# Altium integrated library National Semiconductor Switcher.IntLib: 2226 symbols (part 15 of 59)
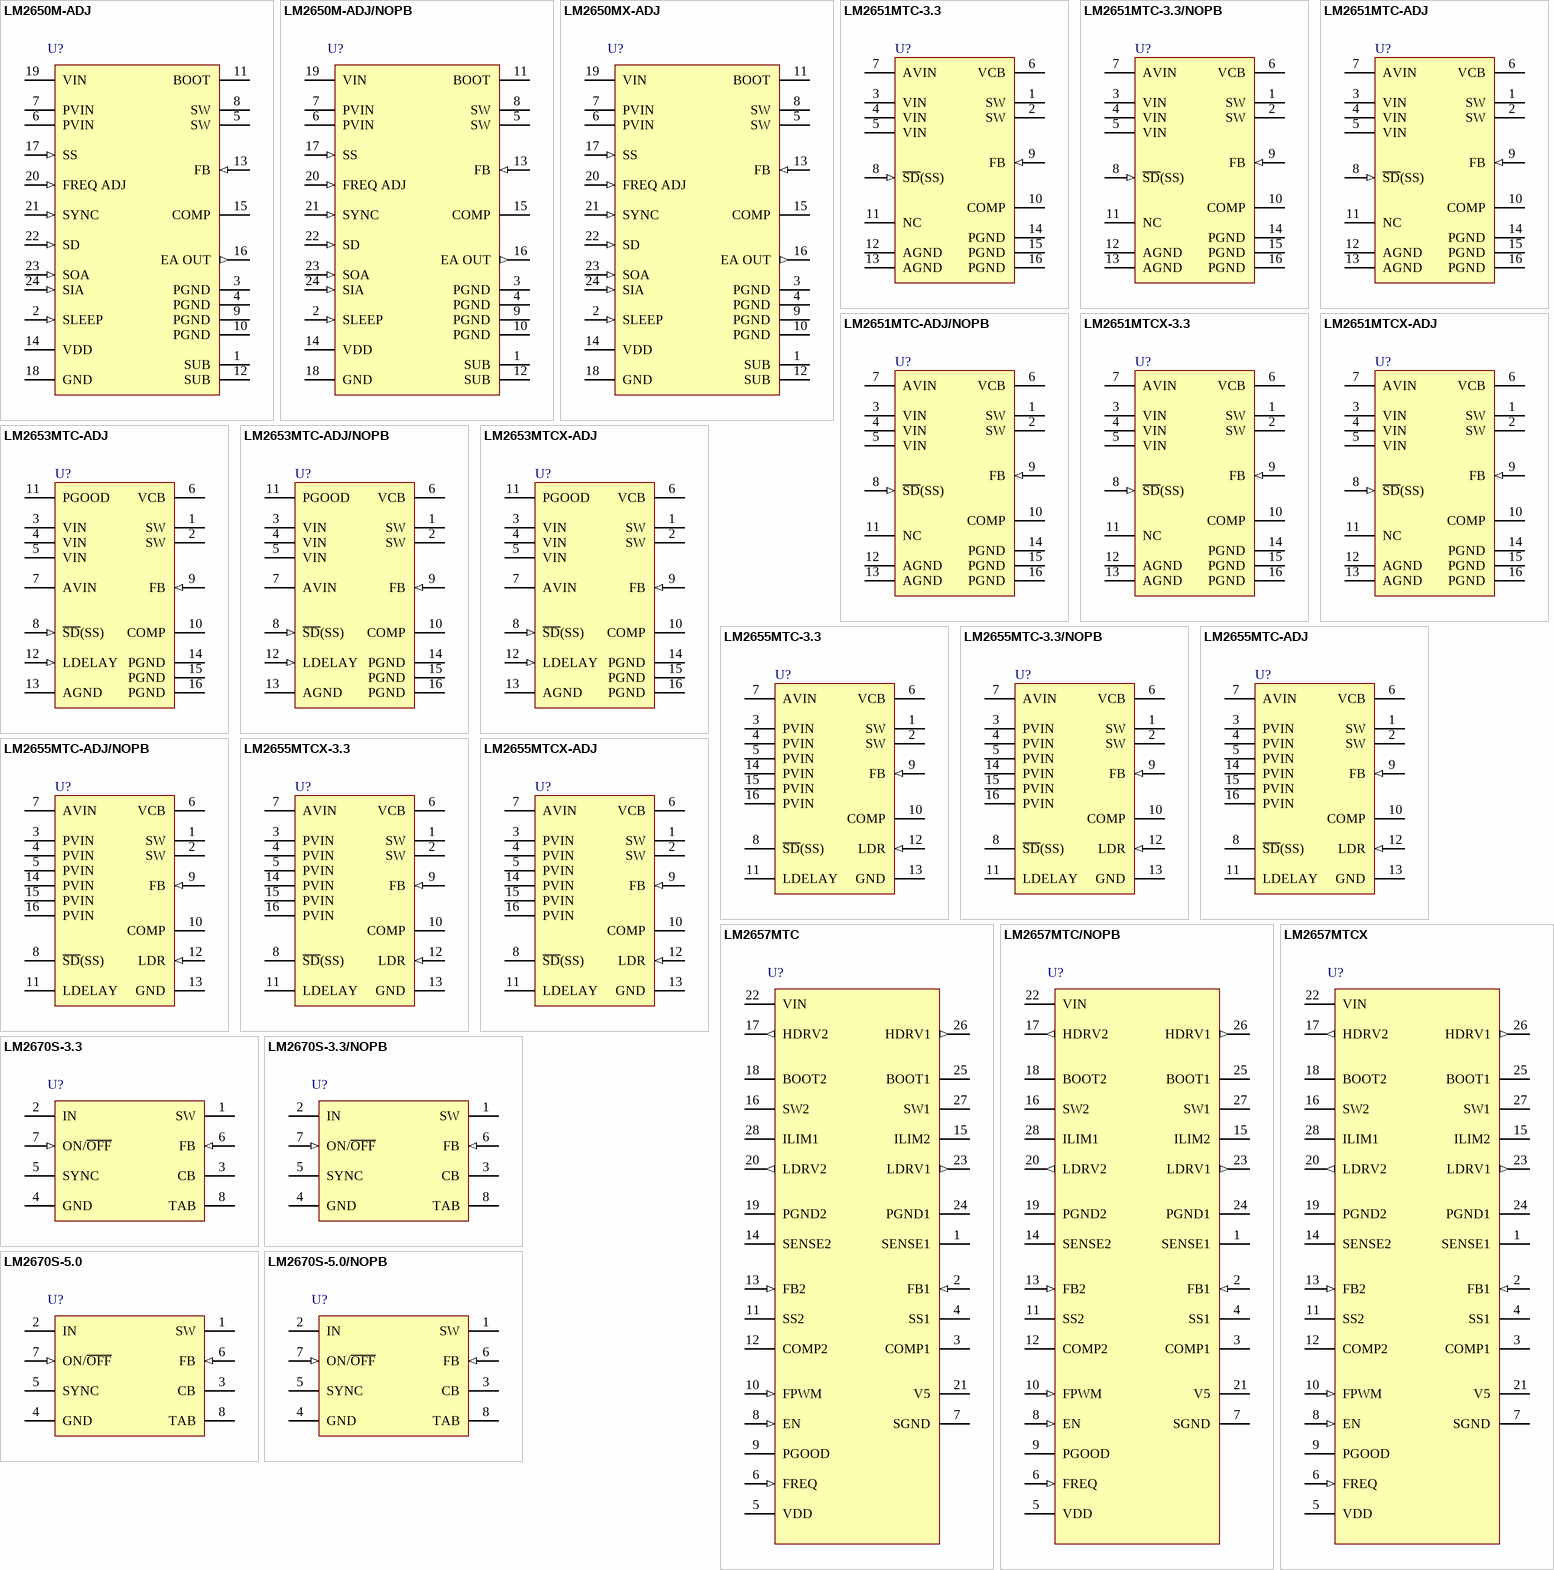
[diagram p83: symbols LM2650M-ADJ to LM2670S-5.0/NOPB]

## LM2651MTC-3.3/NOPB
designator U?
1.5A High Efficiency Switching Regulator, 16-pin TSSOP, Pb-Free; PartNumber: LM2651MTC-3.3/NOPB; Manufacturer: National Semiconductor; PackageTopMarking: NSZXYTT*2651MTC*-3.3; PowerWise: N; CompType: Switcher; High-Reliability: Y; DatasheetVersion: Apr-2005; PackageVersion: revD, Jun-2003; PackageReference: MTC16; PackageDescription: Molded TSSOP, Jedec, 5 x 4.4 x 0.9mm Body, 16 Lead, 0.65mm Pitch; RoHS: Y; PinCount: 16; Code_JEDEC: MO-153-AB; ComponentLink1Description: Manufacturer URL; ComponentLink1URL: http://www.national.com/; ComponentLink2Description: LM2651 Datasheet; ComponentLink2URL: http://www.national.com/ds/LM/LM2651.pdf; ComponentLink3Description: LM2651 Web Page; ComponentLink3URL: http://www.national.com/pf/LM/LM2651.html; ComponentLink4Description: MTC16 Package Page; ComponentLink4URL: http://www.national.com/packaging/folders/mtc16.html
footprint MTC16_N (TSOP, 16-Leads, Body 5x4.4mm, Pitch 0.65mm, IPC Medium Density)
footprint MTC16_L (TSOP, 16-Leads, Body 5x4.4mm, Pitch 0.65mm, IPC High Density)
footprint MTC16_M (TSOP, 16-Leads, Body 5x4.4mm, Pitch 0.65mm, IPC Low Density)
pins: 1 SW (power), 2 SW (power), 3 VIN (power), 4 VIN (power), 5 VIN (power), 6 VCB, 7 AVIN (power), 8 ~{SD}(SS) (in), 9 FB (in), 10 COMP, 11 NC, 12 AGND (power), 13 AGND (power), 14 PGND (power), 15 PGND (power), 16 PGND (power)

## LM2651MTC-ADJ
designator U?
1.5A High Efficiency Switching Regulator, 16-pin TSSOP; PartNumber: LM2651MTC-ADJ; Manufacturer: National Semiconductor; PackageTopMarking: NSZXYTT*2651MTC*-ADJ; PowerWise: N; CompType: Switcher; High-Reliability: Y; DatasheetVersion: Apr-2005; PackageVersion: revD, Jun-2003; PackageReference: MTC16; PackageDescription: Molded TSSOP, Jedec, 5 x 4.4 x 0.9mm Body, 16 Lead, 0.65mm Pitch; RoHS: N; PinCount: 16; Code_JEDEC: MO-153-AB; ComponentLink1Description: Manufacturer URL; ComponentLink1URL: http://www.national.com/; ComponentLink2Description: LM2651 Datasheet; ComponentLink2URL: http://www.national.com/ds/LM/LM2651.pdf; ComponentLink3Description: LM2651 Web Page; ComponentLink3URL: http://www.national.com/pf/LM/LM2651.html; ComponentLink4Description: MTC16 Package Page; ComponentLink4URL: http://www.national.com/packaging/folders/mtc16.html
footprint MTC16_N (TSOP, 16-Leads, Body 5x4.4mm, Pitch 0.65mm, IPC Medium Density)
footprint MTC16_L (TSOP, 16-Leads, Body 5x4.4mm, Pitch 0.65mm, IPC High Density)
footprint MTC16_M (TSOP, 16-Leads, Body 5x4.4mm, Pitch 0.65mm, IPC Low Density)
pins: 1 SW (power), 2 SW (power), 3 VIN (power), 4 VIN (power), 5 VIN (power), 6 VCB, 7 AVIN (power), 8 ~{SD}(SS) (in), 9 FB (in), 10 COMP, 11 NC, 12 AGND (power), 13 AGND (power), 14 PGND (power), 15 PGND (power), 16 PGND (power)

## LM2651MTC-ADJ/NOPB
designator U?
1.5A High Efficiency Switching Regulator, 16-pin TSSOP, Pb-Free; PartNumber: LM2651MTC-ADJ/NOPB; Manufacturer: National Semiconductor; PackageTopMarking: NSZXYTT*2651MTC*-ADJ; PowerWise: N; CompType: Switcher; High-Reliability: Y; DatasheetVersion: Apr-2005; PackageVersion: revD, Jun-2003; PackageReference: MTC16; PackageDescription: Molded TSSOP, Jedec, 5 x 4.4 x 0.9mm Body, 16 Lead, 0.65mm Pitch; RoHS: Y; PinCount: 16; Code_JEDEC: MO-153-AB; ComponentLink1Description: Manufacturer URL; ComponentLink1URL: http://www.national.com/; ComponentLink2Description: LM2651 Datasheet; ComponentLink2URL: http://www.national.com/ds/LM/LM2651.pdf; ComponentLink3Description: LM2651 Web Page; ComponentLink3URL: http://www.national.com/pf/LM/LM2651.html; ComponentLink4Description: MTC16 Package Page; ComponentLink4URL: http://www.national.com/packaging/folders/mtc16.html
footprint MTC16_N (TSOP, 16-Leads, Body 5x4.4mm, Pitch 0.65mm, IPC Medium Density)
footprint MTC16_L (TSOP, 16-Leads, Body 5x4.4mm, Pitch 0.65mm, IPC High Density)
footprint MTC16_M (TSOP, 16-Leads, Body 5x4.4mm, Pitch 0.65mm, IPC Low Density)
pins: 1 SW (power), 2 SW (power), 3 VIN (power), 4 VIN (power), 5 VIN (power), 6 VCB, 7 AVIN (power), 8 ~{SD}(SS) (in), 9 FB (in), 10 COMP, 11 NC, 12 AGND (power), 13 AGND (power), 14 PGND (power), 15 PGND (power), 16 PGND (power)

## LM2651MTCX-3.3
designator U?
1.5A High Efficiency Switching Regulator, 16-pin TSSOP; PartNumber: LM2651MTCX-3.3; Manufacturer: National Semiconductor; PackageTopMarking: NSZXYTT*2651MTC*-3.3; PowerWise: N; CompType: Switcher; High-Reliability: Y; DatasheetVersion: Apr-2005; PackageVersion: revD, Jun-2003; PackageReference: MTC16; PackageDescription: Molded TSSOP, Jedec, 5 x 4.4 x 0.9mm Body, 16 Lead, 0.65mm Pitch; RoHS: N; PinCount: 16; Code_JEDEC: MO-153-AB; ComponentLink1Description: Manufacturer URL; ComponentLink1URL: http://www.national.com/; ComponentLink2Description: LM2651 Datasheet; ComponentLink2URL: http://www.national.com/ds/LM/LM2651.pdf; ComponentLink3Description: LM2651 Web Page; ComponentLink3URL: http://www.national.com/pf/LM/LM2651.html; ComponentLink4Description: MTC16 Package Page; ComponentLink4URL: http://www.national.com/packaging/folders/mtc16.html
footprint MTC16_N (TSOP, 16-Leads, Body 5x4.4mm, Pitch 0.65mm, IPC Medium Density)
footprint MTC16_L (TSOP, 16-Leads, Body 5x4.4mm, Pitch 0.65mm, IPC High Density)
footprint MTC16_M (TSOP, 16-Leads, Body 5x4.4mm, Pitch 0.65mm, IPC Low Density)
pins: 1 SW (power), 2 SW (power), 3 VIN (power), 4 VIN (power), 5 VIN (power), 6 VCB, 7 AVIN (power), 8 ~{SD}(SS) (in), 9 FB (in), 10 COMP, 11 NC, 12 AGND (power), 13 AGND (power), 14 PGND (power), 15 PGND (power), 16 PGND (power)

## LM2651MTCX-ADJ
designator U?
1.5A High Efficiency Switching Regulator, 16-pin TSSOP; PartNumber: LM2651MTCX-ADJ; Manufacturer: National Semiconductor; PackageTopMarking: NSZXYTT*2651MTC*-ADJ; PowerWise: N; CompType: Switcher; High-Reliability: Y; DatasheetVersion: Apr-2005; PackageVersion: revD, Jun-2003; PackageReference: MTC16; PackageDescription: Molded TSSOP, Jedec, 5 x 4.4 x 0.9mm Body, 16 Lead, 0.65mm Pitch; RoHS: N; PinCount: 16; Code_JEDEC: MO-153-AB; ComponentLink1Description: Manufacturer URL; ComponentLink1URL: http://www.national.com/; ComponentLink2Description: LM2651 Datasheet; ComponentLink2URL: http://www.national.com/ds/LM/LM2651.pdf; ComponentLink3Description: LM2651 Web Page; ComponentLink3URL: http://www.national.com/pf/LM/LM2651.html; ComponentLink4Description: MTC16 Package Page; ComponentLink4URL: http://www.national.com/packaging/folders/mtc16.html
footprint MTC16_N (TSOP, 16-Leads, Body 5x4.4mm, Pitch 0.65mm, IPC Medium Density)
footprint MTC16_L (TSOP, 16-Leads, Body 5x4.4mm, Pitch 0.65mm, IPC High Density)
footprint MTC16_M (TSOP, 16-Leads, Body 5x4.4mm, Pitch 0.65mm, IPC Low Density)
pins: 1 SW (power), 2 SW (power), 3 VIN (power), 4 VIN (power), 5 VIN (power), 6 VCB, 7 AVIN (power), 8 ~{SD}(SS) (in), 9 FB (in), 10 COMP, 11 NC, 12 AGND (power), 13 AGND (power), 14 PGND (power), 15 PGND (power), 16 PGND (power)

## LM2653MTC-ADJ
designator U?
1.5A High Efficiency Synchronous Switching Regulator, 16-pin TSSOP; PartNumber: LM2653MTC-ADJ; Manufacturer: National Semiconductor; PackageTopMarking: NSZXYTT*2653MT*C-ADJ; PowerWise: N; CompType: Switcher; High-Reliability: Y; DatasheetVersion: Apr-2005; PackageVersion: revD, Jun-2003; PackageReference: MTC16; PackageDescription: Molded TSSOP, Jedec, 5 x 4.4 x 0.9mm Body, 16 Lead, 0.65mm Pitch; RoHS: N; PinCount: 16; Code_JEDEC: MO-153-AB; ComponentLink1Description: Manufacturer URL; ComponentLink1URL: http://www.national.com/; ComponentLink2Description: LM2653 Datasheet; ComponentLink2URL: http://www.national.com/ds/LM/LM2653.pdf; ComponentLink3Description: LM2653 Web Page; ComponentLink3URL: http://www.national.com/pf/LM/LM2653.html; ComponentLink4Description: MTC16 Package Page; ComponentLink4URL: http://www.national.com/packaging/folders/mtc16.html
footprint MTC16_N (TSOP, 16-Leads, Body 5x4.4mm, Pitch 0.65mm, IPC Medium Density)
footprint MTC16_L (TSOP, 16-Leads, Body 5x4.4mm, Pitch 0.65mm, IPC High Density)
footprint MTC16_M (TSOP, 16-Leads, Body 5x4.4mm, Pitch 0.65mm, IPC Low Density)
pins: 1 SW (power), 2 SW (power), 3 VIN (power), 4 VIN (power), 5 VIN (power), 6 VCB, 7 AVIN (power), 8 ~{SD}(SS) (in), 9 FB (in), 10 COMP, 11 PGOOD (oc), 12 LDELAY (in), 13 AGND (power), 14 PGND (power), 15 PGND (power), 16 PGND (power)

## LM2653MTC-ADJ/NOPB
designator U?
1.5A High Efficiency Synchronous Switching Regulator, 16-pin TSSOP, Pb-Free; PartNumber: LM2653MTC-ADJ/NOPB; Manufacturer: National Semiconductor; PackageTopMarking: NSZXYTT*2653MT*C-ADJ; PowerWise: N; CompType: Switcher; High-Reliability: Y; DatasheetVersion: Apr-2005; PackageVersion: revD, Jun-2003; PackageReference: MTC16; PackageDescription: Molded TSSOP, Jedec, 5 x 4.4 x 0.9mm Body, 16 Lead, 0.65mm Pitch; RoHS: Y; PinCount: 16; Code_JEDEC: MO-153-AB; ComponentLink1Description: Manufacturer URL; ComponentLink1URL: http://www.national.com/; ComponentLink2Description: LM2653 Datasheet; ComponentLink2URL: http://www.national.com/ds/LM/LM2653.pdf; ComponentLink3Description: LM2653 Web Page; ComponentLink3URL: http://www.national.com/pf/LM/LM2653.html; ComponentLink4Description: MTC16 Package Page; ComponentLink4URL: http://www.national.com/packaging/folders/mtc16.html
footprint MTC16_N (TSOP, 16-Leads, Body 5x4.4mm, Pitch 0.65mm, IPC Medium Density)
footprint MTC16_L (TSOP, 16-Leads, Body 5x4.4mm, Pitch 0.65mm, IPC High Density)
footprint MTC16_M (TSOP, 16-Leads, Body 5x4.4mm, Pitch 0.65mm, IPC Low Density)
pins: 1 SW (power), 2 SW (power), 3 VIN (power), 4 VIN (power), 5 VIN (power), 6 VCB, 7 AVIN (power), 8 ~{SD}(SS) (in), 9 FB (in), 10 COMP, 11 PGOOD (oc), 12 LDELAY (in), 13 AGND (power), 14 PGND (power), 15 PGND (power), 16 PGND (power)

## LM2653MTCX-ADJ
designator U?
1.5A High Efficiency Synchronous Switching Regulator, 16-pin TSSOP; PartNumber: LM2653MTCX-ADJ; Manufacturer: National Semiconductor; PackageTopMarking: NSZXYTT*2653MT*C-ADJ; PowerWise: N; CompType: Switcher; High-Reliability: Y; DatasheetVersion: Apr-2005; PackageVersion: revD, Jun-2003; PackageReference: MTC16; PackageDescription: Molded TSSOP, Jedec, 5 x 4.4 x 0.9mm Body, 16 Lead, 0.65mm Pitch; RoHS: N; PinCount: 16; Code_JEDEC: MO-153-AB; ComponentLink1Description: Manufacturer URL; ComponentLink1URL: http://www.national.com/; ComponentLink2Description: LM2653 Datasheet; ComponentLink2URL: http://www.national.com/ds/LM/LM2653.pdf; ComponentLink3Description: LM2653 Web Page; ComponentLink3URL: http://www.national.com/pf/LM/LM2653.html; ComponentLink4Description: MTC16 Package Page; ComponentLink4URL: http://www.national.com/packaging/folders/mtc16.html
footprint MTC16_N (TSOP, 16-Leads, Body 5x4.4mm, Pitch 0.65mm, IPC Medium Density)
footprint MTC16_L (TSOP, 16-Leads, Body 5x4.4mm, Pitch 0.65mm, IPC High Density)
footprint MTC16_M (TSOP, 16-Leads, Body 5x4.4mm, Pitch 0.65mm, IPC Low Density)
pins: 1 SW (power), 2 SW (power), 3 VIN (power), 4 VIN (power), 5 VIN (power), 6 VCB, 7 AVIN (power), 8 ~{SD}(SS) (in), 9 FB (in), 10 COMP, 11 PGOOD (oc), 12 LDELAY (in), 13 AGND (power), 14 PGND (power), 15 PGND (power), 16 PGND (power)

## LM2655MTC-3.3
designator U?
2.5A High Efficiency Synchronous Switching Regulator, 16-pin TSSOP; PartNumber: LM2655MTC-3.3; Manufacturer: National Semiconductor; PackageTopMarking: NSZXYTT*2655MTC*-3.3; PowerWise: N; CompType: Switcher; High-Reliability: Y; DatasheetVersion: Apr-2005; PackageVersion: revD, Jun-2003; PackageReference: MTC16; PackageDescription: Molded TSSOP, Jedec, 5 x 4.4 x 0.9mm Body, 16 Lead, 0.65mm Pitch; RoHS: N; PinCount: 16; Code_JEDEC: MO-153-AB; ComponentLink1Description: Manufacturer URL; ComponentLink1URL: http://www.national.com/; ComponentLink2Description: LM2655 Datasheet; ComponentLink2URL: http://www.national.com/ds/LM/LM2655.pdf; ComponentLink3Description: LM2655 Web Page; ComponentLink3URL: http://www.national.com/pf/LM/LM2655.html; ComponentLink4Description: MTC16 Package Page; ComponentLink4URL: http://www.national.com/packaging/folders/mtc16.html
footprint MTC16_N (TSOP, 16-Leads, Body 5x4.4mm, Pitch 0.65mm, IPC Medium Density)
footprint MTC16_L (TSOP, 16-Leads, Body 5x4.4mm, Pitch 0.65mm, IPC High Density)
footprint MTC16_M (TSOP, 16-Leads, Body 5x4.4mm, Pitch 0.65mm, IPC Low Density)
pins: 1 SW (power), 2 SW (power), 3 PVIN (power), 4 PVIN (power), 5 PVIN (power), 6 VCB, 7 AVIN (power), 8 ~{SD}(SS), 9 FB (in), 10 COMP, 11 LDELAY, 12 LDR (in), 13 GND (power), 14 PVIN (power), 15 PVIN (power), 16 PVIN (power)

## LM2655MTC-3.3/NOPB
designator U?
2.5A High Efficiency Synchronous Switching Regulator, 16-pin TSSOP, Pb-Free; PartNumber: LM2655MTC-3.3/NOPB; Manufacturer: National Semiconductor; PackageTopMarking: NSZXYTT*2655MTC*-3.3; PowerWise: N; CompType: Switcher; High-Reliability: Y; DatasheetVersion: Apr-2005; PackageVersion: revD, Jun-2003; PackageReference: MTC16; PackageDescription: Molded TSSOP, Jedec, 5 x 4.4 x 0.9mm Body, 16 Lead, 0.65mm Pitch; RoHS: Y; PinCount: 16; Code_JEDEC: MO-153-AB; ComponentLink1Description: Manufacturer URL; ComponentLink1URL: http://www.national.com/; ComponentLink2Description: LM2655 Datasheet; ComponentLink2URL: http://www.national.com/ds/LM/LM2655.pdf; ComponentLink3Description: LM2655 Web Page; ComponentLink3URL: http://www.national.com/pf/LM/LM2655.html; ComponentLink4Description: MTC16 Package Page; ComponentLink4URL: http://www.national.com/packaging/folders/mtc16.html
footprint MTC16_N (TSOP, 16-Leads, Body 5x4.4mm, Pitch 0.65mm, IPC Medium Density)
footprint MTC16_L (TSOP, 16-Leads, Body 5x4.4mm, Pitch 0.65mm, IPC High Density)
footprint MTC16_M (TSOP, 16-Leads, Body 5x4.4mm, Pitch 0.65mm, IPC Low Density)
pins: 1 SW (power), 2 SW (power), 3 PVIN (power), 4 PVIN (power), 5 PVIN (power), 6 VCB, 7 AVIN (power), 8 ~{SD}(SS), 9 FB (in), 10 COMP, 11 LDELAY, 12 LDR (in), 13 GND (power), 14 PVIN (power), 15 PVIN (power), 16 PVIN (power)

## LM2655MTC-ADJ
designator U?
2.5A High Efficiency Synchronous Switching Regulator, 16-pin TSSOP; PartNumber: LM2655MTC-ADJ; Manufacturer: National Semiconductor; PackageTopMarking: NSZXYTT*2655MTC*-ADJ; PowerWise: N; CompType: Switcher; High-Reliability: Y; DatasheetVersion: Apr-2005; PackageVersion: revD, Jun-2003; PackageReference: MTC16; PackageDescription: Molded TSSOP, Jedec, 5 x 4.4 x 0.9mm Body, 16 Lead, 0.65mm Pitch; RoHS: N; PinCount: 16; Code_JEDEC: MO-153-AB; ComponentLink1Description: Manufacturer URL; ComponentLink1URL: http://www.national.com/; ComponentLink2Description: LM2655 Datasheet; ComponentLink2URL: http://www.national.com/ds/LM/LM2655.pdf; ComponentLink3Description: LM2655 Web Page; ComponentLink3URL: http://www.national.com/pf/LM/LM2655.html; ComponentLink4Description: MTC16 Package Page; ComponentLink4URL: http://www.national.com/packaging/folders/mtc16.html
footprint MTC16_N (TSOP, 16-Leads, Body 5x4.4mm, Pitch 0.65mm, IPC Medium Density)
footprint MTC16_L (TSOP, 16-Leads, Body 5x4.4mm, Pitch 0.65mm, IPC High Density)
footprint MTC16_M (TSOP, 16-Leads, Body 5x4.4mm, Pitch 0.65mm, IPC Low Density)
pins: 1 SW (power), 2 SW (power), 3 PVIN (power), 4 PVIN (power), 5 PVIN (power), 6 VCB, 7 AVIN (power), 8 ~{SD}(SS), 9 FB (in), 10 COMP, 11 LDELAY, 12 LDR (in), 13 GND (power), 14 PVIN (power), 15 PVIN (power), 16 PVIN (power)

## LM2655MTC-ADJ/NOPB
designator U?
2.5A High Efficiency Synchronous Switching Regulator, 16-pin TSSOP, Pb-Free; PartNumber: LM2655MTC-ADJ/NOPB; Manufacturer: National Semiconductor; PackageTopMarking: NSZXYTT*2655MTC*-ADJ; PowerWise: N; CompType: Switcher; High-Reliability: Y; DatasheetVersion: Apr-2005; PackageVersion: revD, Jun-2003; PackageReference: MTC16; PackageDescription: Molded TSSOP, Jedec, 5 x 4.4 x 0.9mm Body, 16 Lead, 0.65mm Pitch; RoHS: Y; PinCount: 16; Code_JEDEC: MO-153-AB; ComponentLink1Description: Manufacturer URL; ComponentLink1URL: http://www.national.com/; ComponentLink2Description: LM2655 Datasheet; ComponentLink2URL: http://www.national.com/ds/LM/LM2655.pdf; ComponentLink3Description: LM2655 Web Page; ComponentLink3URL: http://www.national.com/pf/LM/LM2655.html; ComponentLink4Description: MTC16 Package Page; ComponentLink4URL: http://www.national.com/packaging/folders/mtc16.html
footprint MTC16_N (TSOP, 16-Leads, Body 5x4.4mm, Pitch 0.65mm, IPC Medium Density)
footprint MTC16_L (TSOP, 16-Leads, Body 5x4.4mm, Pitch 0.65mm, IPC High Density)
footprint MTC16_M (TSOP, 16-Leads, Body 5x4.4mm, Pitch 0.65mm, IPC Low Density)
pins: 1 SW (power), 2 SW (power), 3 PVIN (power), 4 PVIN (power), 5 PVIN (power), 6 VCB, 7 AVIN (power), 8 ~{SD}(SS), 9 FB (in), 10 COMP, 11 LDELAY, 12 LDR (in), 13 GND (power), 14 PVIN (power), 15 PVIN (power), 16 PVIN (power)

## LM2655MTCX-3.3
designator U?
2.5A High Efficiency Synchronous Switching Regulator, 16-pin TSSOP; PartNumber: LM2655MTCX-3.3; Manufacturer: National Semiconductor; PackageTopMarking: NSZXYTT*2655MTC*-3.3; PowerWise: N; CompType: Switcher; High-Reliability: Y; DatasheetVersion: Apr-2005; PackageVersion: revD, Jun-2003; PackageReference: MTC16; PackageDescription: Molded TSSOP, Jedec, 5 x 4.4 x 0.9mm Body, 16 Lead, 0.65mm Pitch; RoHS: N; PinCount: 16; Code_JEDEC: MO-153-AB; ComponentLink1Description: Manufacturer URL; ComponentLink1URL: http://www.national.com/; ComponentLink2Description: LM2655 Datasheet; ComponentLink2URL: http://www.national.com/ds/LM/LM2655.pdf; ComponentLink3Description: LM2655 Web Page; ComponentLink3URL: http://www.national.com/pf/LM/LM2655.html; ComponentLink4Description: MTC16 Package Page; ComponentLink4URL: http://www.national.com/packaging/folders/mtc16.html
footprint MTC16_N (TSOP, 16-Leads, Body 5x4.4mm, Pitch 0.65mm, IPC Medium Density)
footprint MTC16_L (TSOP, 16-Leads, Body 5x4.4mm, Pitch 0.65mm, IPC High Density)
footprint MTC16_M (TSOP, 16-Leads, Body 5x4.4mm, Pitch 0.65mm, IPC Low Density)
pins: 1 SW (power), 2 SW (power), 3 PVIN (power), 4 PVIN (power), 5 PVIN (power), 6 VCB, 7 AVIN (power), 8 ~{SD}(SS), 9 FB (in), 10 COMP, 11 LDELAY, 12 LDR (in), 13 GND (power), 14 PVIN (power), 15 PVIN (power), 16 PVIN (power)

## LM2655MTCX-ADJ
designator U?
2.5A High Efficiency Synchronous Switching Regulator, 16-pin TSSOP; PartNumber: LM2655MTCX-ADJ; Manufacturer: National Semiconductor; PackageTopMarking: NSZXYTT*2655MTC*-ADJ; PowerWise: N; CompType: Switcher; High-Reliability: Y; DatasheetVersion: Apr-2005; PackageVersion: revD, Jun-2003; PackageReference: MTC16; PackageDescription: Molded TSSOP, Jedec, 5 x 4.4 x 0.9mm Body, 16 Lead, 0.65mm Pitch; RoHS: N; PinCount: 16; Code_JEDEC: MO-153-AB; ComponentLink1Description: Manufacturer URL; ComponentLink1URL: http://www.national.com/; ComponentLink2Description: LM2655 Datasheet; ComponentLink2URL: http://www.national.com/ds/LM/LM2655.pdf; ComponentLink3Description: LM2655 Web Page; ComponentLink3URL: http://www.national.com/pf/LM/LM2655.html; ComponentLink4Description: MTC16 Package Page; ComponentLink4URL: http://www.national.com/packaging/folders/mtc16.html
footprint MTC16_N (TSOP, 16-Leads, Body 5x4.4mm, Pitch 0.65mm, IPC Medium Density)
footprint MTC16_L (TSOP, 16-Leads, Body 5x4.4mm, Pitch 0.65mm, IPC High Density)
footprint MTC16_M (TSOP, 16-Leads, Body 5x4.4mm, Pitch 0.65mm, IPC Low Density)
pins: 1 SW (power), 2 SW (power), 3 PVIN (power), 4 PVIN (power), 5 PVIN (power), 6 VCB, 7 AVIN (power), 8 ~{SD}(SS), 9 FB (in), 10 COMP, 11 LDELAY, 12 LDR (in), 13 GND (power), 14 PVIN (power), 15 PVIN (power), 16 PVIN (power)

## LM2657MTC
designator U?
Dual Synchronous Buck Regulator Controller, 28-pin TSSOP; PartNumber: LM2657MTC; Manufacturer: National Semiconductor; PackageTopMarking: NSUZXYTTE#*LM2657*MTC; PowerWise: N; CompType: Switcher; High-Reliability: Y; DatasheetVersion: Mar-2005; PackageVersion: revD, Jan-2005; PackageReference: MTC28; PackageDescription: Molded TSSOP, Jedec, 9.7 x 4.4 x 0.9mm Body, 28 Lead, 0.65mm Pitch; RoHS: N; PinCount: 28; Code_JEDEC: MO-153-AE; ComponentLink1Description: Manufacturer URL; ComponentLink1URL: http://www.national.com/; ComponentLink2Description: LM2657 Datasheet; ComponentLink2URL: http://www.national.com/ds/LM/LM2657.pdf; ComponentLink3Description: LM2657 Web Page; ComponentLink3URL: http://www.national.com/pf/LM/LM2657.html; ComponentLink4Description: MTC28 Package Page; ComponentLink4URL: http://www.national.com/packaging/folders/mtc28.html
footprint MTC28_N (TSOP, 28-Leads, Body 9.7x4.4mm, Pitch 0.65mm, IPC Medium Density)
footprint MTC28_L (TSOP, 28-Leads, Body 9.7x4.4mm, Pitch 0.65mm, IPC High Density)
footprint MTC28_M (TSOP, 28-Leads, Body 9.7x4.4mm, Pitch 0.65mm, IPC Low Density)
pins: 1 SENSE1, 2 FB1 (in), 3 COMP1, 4 SS1, 5 VDD (power), 6 FREQ (in), 7 SGND (power), 8 EN (in), 9 PGOOD (oc), 10 FPWM (in), 11 SS2, 12 COMP2, 13 FB2 (in), 14 SENSE2, 15 ILIM2, 16 SW2 (power), 17 HDRV2 (out), 18 BOOT2, 19 PGND2 (power), 20 LDRV2 (out), 21 V5 (power), 22 VIN (power), 23 LDRV1 (out), 24 PGND1 (power), 25 BOOT1, 26 HDRV1 (out), 27 SW1 (power), 28 ILIM1

## LM2657MTC/NOPB
designator U?
Dual Synchronous Buck Regulator Controller, 28-pin TSSOP, Pb-Free; PartNumber: LM2657MTC/NOPB; Manufacturer: National Semiconductor; PackageTopMarking: NSUZXYTTE#*LM2657*MTC; PowerWise: N; CompType: Switcher; High-Reliability: Y; DatasheetVersion: Mar-2005; PackageVersion: revD, Jan-2005; PackageReference: MTC28; PackageDescription: Molded TSSOP, Jedec, 9.7 x 4.4 x 0.9mm Body, 28 Lead, 0.65mm Pitch; RoHS: Y; PinCount: 28; Code_JEDEC: MO-153-AE; ComponentLink1Description: Manufacturer URL; ComponentLink1URL: http://www.national.com/; ComponentLink2Description: LM2657 Datasheet; ComponentLink2URL: http://www.national.com/ds/LM/LM2657.pdf; ComponentLink3Description: LM2657 Web Page; ComponentLink3URL: http://www.national.com/pf/LM/LM2657.html; ComponentLink4Description: MTC28 Package Page; ComponentLink4URL: http://www.national.com/packaging/folders/mtc28.html
footprint MTC28_N (TSOP, 28-Leads, Body 9.7x4.4mm, Pitch 0.65mm, IPC Medium Density)
footprint MTC28_L (TSOP, 28-Leads, Body 9.7x4.4mm, Pitch 0.65mm, IPC High Density)
footprint MTC28_M (TSOP, 28-Leads, Body 9.7x4.4mm, Pitch 0.65mm, IPC Low Density)
pins: 1 SENSE1, 2 FB1 (in), 3 COMP1, 4 SS1, 5 VDD (power), 6 FREQ (in), 7 SGND (power), 8 EN (in), 9 PGOOD (oc), 10 FPWM (in), 11 SS2, 12 COMP2, 13 FB2 (in), 14 SENSE2, 15 ILIM2, 16 SW2 (power), 17 HDRV2 (out), 18 BOOT2, 19 PGND2 (power), 20 LDRV2 (out), 21 V5 (power), 22 VIN (power), 23 LDRV1 (out), 24 PGND1 (power), 25 BOOT1, 26 HDRV1 (out), 27 SW1 (power), 28 ILIM1

## LM2657MTCX
designator U?
Dual Synchronous Buck Regulator Controller, 28-pin TSSOP; PartNumber: LM2657MTCX; Manufacturer: National Semiconductor; PackageTopMarking: NSUZXYTTE#*LM2657*MTC; PowerWise: N; CompType: Switcher; High-Reliability: Y; DatasheetVersion: Mar-2005; PackageVersion: revD, Jan-2005; PackageReference: MTC28; PackageDescription: Molded TSSOP, Jedec, 9.7 x 4.4 x 0.9mm Body, 28 Lead, 0.65mm Pitch; RoHS: N; PinCount: 28; Code_JEDEC: MO-153-AE; ComponentLink1Description: Manufacturer URL; ComponentLink1URL: http://www.national.com/; ComponentLink2Description: LM2657 Datasheet; ComponentLink2URL: http://www.national.com/ds/LM/LM2657.pdf; ComponentLink3Description: LM2657 Web Page; ComponentLink3URL: http://www.national.com/pf/LM/LM2657.html; ComponentLink4Description: MTC28 Package Page; ComponentLink4URL: http://www.national.com/packaging/folders/mtc28.html
footprint MTC28_N (TSOP, 28-Leads, Body 9.7x4.4mm, Pitch 0.65mm, IPC Medium Density)
footprint MTC28_L (TSOP, 28-Leads, Body 9.7x4.4mm, Pitch 0.65mm, IPC High Density)
footprint MTC28_M (TSOP, 28-Leads, Body 9.7x4.4mm, Pitch 0.65mm, IPC Low Density)
pins: 1 SENSE1, 2 FB1 (in), 3 COMP1, 4 SS1, 5 VDD (power), 6 FREQ (in), 7 SGND (power), 8 EN (in), 9 PGOOD (oc), 10 FPWM (in), 11 SS2, 12 COMP2, 13 FB2 (in), 14 SENSE2, 15 ILIM2, 16 SW2 (power), 17 HDRV2 (out), 18 BOOT2, 19 PGND2 (power), 20 LDRV2 (out), 21 V5 (power), 22 VIN (power), 23 LDRV1 (out), 24 PGND1 (power), 25 BOOT1, 26 HDRV1 (out), 27 SW1 (power), 28 ILIM1

## LM2670S-3.3
designator U?
SIMPLE SWITCHER® High Efficiency 3A Step-Down Voltage Regulator with Sync, 7-pin TO-263; PartNumber: LM2670S-3.3; Manufacturer: National Semiconductor; PackageTopMarking: NSUZXYTTE#*LM2670*S-3.3; PowerWise: N; High-Reliability: Y; DatasheetVersion: Feb-2008; PackageVersion: revE, Jul-2003; PackageReference: TS7B; PackageDescription: TO-263, Molded, .400 x .390 x .180in Body, 7 Lead, .050in Pitch, Surface Mount; RoHS: N; PinCount: 7; CompType: Switcher; Code_JEDEC: MO-169-AC; ComponentLink1Description: Manufacturer URL; ComponentLink1URL: http://www.national.com/; ComponentLink2Description: LM2670 Datasheet; ComponentLink2URL: http://www.national.com/ds/LM/LM2670.pdf; ComponentLink3Description: LM2670 Web Page; ComponentLink3URL: http://www.national.com/pf/LM/LM2670.html; ComponentLink4Description: TS7B Package Page; ComponentLink4URL: http://www.national.com/packaging/folders/ts7b.html
footprint TS7B_N (D2-PAK, 8-Leads, Body 8.6x10.2mm, Pitch 1.27mm, Lead Span 14.1mm, IPC Medium Density)
footprint TS7B_L (D2-PAK, 8-Leads, Body 8.6x10.2mm, Pitch 1.27mm, Lead Span 14.1mm, IPC High Density)
footprint TS7B_M (D2-PAK, 8-Leads, Body 8.6x10.2mm, Pitch 1.27mm, Lead Span 14.1mm, IPC Low Density)
pins: 1 SW (power), 2 IN (power), 3 CB, 4 GND (power), 5 SYNC, 6 FB (in), 7 ON/~{OFF} (in), 8 TAB

## LM2670S-3.3/NOPB
designator U?
SIMPLE SWITCHER® High Efficiency 3A Step-Down Voltage Regulator with Sync, 7-pin TO-263, Pb-Free; PartNumber: LM2670S-3.3/NOPB; Manufacturer: National Semiconductor; PackageTopMarking: NSUZXYTTE#*LM2670*S-3.3; PowerWise: N; High-Reliability: Y; DatasheetVersion: Feb-2008; PackageVersion: revE, Jul-2003; PackageReference: TS7B; PackageDescription: TO-263, Molded, .400 x .390 x .180in Body, 7 Lead, .050in Pitch, Surface Mount; RoHS: Y; PinCount: 7; CompType: Switcher; Code_JEDEC: MO-169-AC; ComponentLink1Description: Manufacturer URL; ComponentLink1URL: http://www.national.com/; ComponentLink2Description: LM2670 Datasheet; ComponentLink2URL: http://www.national.com/ds/LM/LM2670.pdf; ComponentLink3Description: LM2670 Web Page; ComponentLink3URL: http://www.national.com/pf/LM/LM2670.html; ComponentLink4Description: TS7B Package Page; ComponentLink4URL: http://www.national.com/packaging/folders/ts7b.html
footprint TS7B_N (D2-PAK, 8-Leads, Body 8.6x10.2mm, Pitch 1.27mm, Lead Span 14.1mm, IPC Medium Density)
footprint TS7B_L (D2-PAK, 8-Leads, Body 8.6x10.2mm, Pitch 1.27mm, Lead Span 14.1mm, IPC High Density)
footprint TS7B_M (D2-PAK, 8-Leads, Body 8.6x10.2mm, Pitch 1.27mm, Lead Span 14.1mm, IPC Low Density)
pins: 1 SW (power), 2 IN (power), 3 CB, 4 GND (power), 5 SYNC, 6 FB (in), 7 ON/~{OFF} (in), 8 TAB

## LM2670S-5.0
designator U?
SIMPLE SWITCHER® High Efficiency 3A Step-Down Voltage Regulator with Sync, 7-pin TO-263; PartNumber: LM2670S-5.0; Manufacturer: National Semiconductor; PackageTopMarking: NSUZXYTTE#*LM2670*S-5.0; PowerWise: N; High-Reliability: Y; DatasheetVersion: Feb-2008; PackageVersion: revE, Jul-2003; PackageReference: TS7B; PackageDescription: TO-263, Molded, .400 x .390 x .180in Body, 7 Lead, .050in Pitch, Surface Mount; RoHS: N; PinCount: 7; CompType: Switcher; Code_JEDEC: MO-169-AC; ComponentLink1Description: Manufacturer URL; ComponentLink1URL: http://www.national.com/; ComponentLink2Description: LM2670 Datasheet; ComponentLink2URL: http://www.national.com/ds/LM/LM2670.pdf; ComponentLink3Description: LM2670 Web Page; ComponentLink3URL: http://www.national.com/pf/LM/LM2670.html; ComponentLink4Description: TS7B Package Page; ComponentLink4URL: http://www.national.com/packaging/folders/ts7b.html
footprint TS7B_N (D2-PAK, 8-Leads, Body 8.6x10.2mm, Pitch 1.27mm, Lead Span 14.1mm, IPC Medium Density)
footprint TS7B_L (D2-PAK, 8-Leads, Body 8.6x10.2mm, Pitch 1.27mm, Lead Span 14.1mm, IPC High Density)
footprint TS7B_M (D2-PAK, 8-Leads, Body 8.6x10.2mm, Pitch 1.27mm, Lead Span 14.1mm, IPC Low Density)
pins: 1 SW (power), 2 IN (power), 3 CB, 4 GND (power), 5 SYNC, 6 FB (in), 7 ON/~{OFF} (in), 8 TAB

## LM2670S-5.0/NOPB
designator U?
SIMPLE SWITCHER® High Efficiency 3A Step-Down Voltage Regulator with Sync, 7-pin TO-263, Pb-Free; PartNumber: LM2670S-5.0/NOPB; Manufacturer: National Semiconductor; PackageTopMarking: NSUZXYTTE#*LM2670*S-5.0; PowerWise: N; High-Reliability: Y; DatasheetVersion: Feb-2008; PackageVersion: revE, Jul-2003; PackageReference: TS7B; PackageDescription: TO-263, Molded, .400 x .390 x .180in Body, 7 Lead, .050in Pitch, Surface Mount; RoHS: Y; PinCount: 7; CompType: Switcher; Code_JEDEC: MO-169-AC; ComponentLink1Description: Manufacturer URL; ComponentLink1URL: http://www.national.com/; ComponentLink2Description: LM2670 Datasheet; ComponentLink2URL: http://www.national.com/ds/LM/LM2670.pdf; ComponentLink3Description: LM2670 Web Page; ComponentLink3URL: http://www.national.com/pf/LM/LM2670.html; ComponentLink4Description: TS7B Package Page; ComponentLink4URL: http://www.national.com/packaging/folders/ts7b.html
footprint TS7B_N (D2-PAK, 8-Leads, Body 8.6x10.2mm, Pitch 1.27mm, Lead Span 14.1mm, IPC Medium Density)
footprint TS7B_L (D2-PAK, 8-Leads, Body 8.6x10.2mm, Pitch 1.27mm, Lead Span 14.1mm, IPC High Density)
footprint TS7B_M (D2-PAK, 8-Leads, Body 8.6x10.2mm, Pitch 1.27mm, Lead Span 14.1mm, IPC Low Density)
pins: 1 SW (power), 2 IN (power), 3 CB, 4 GND (power), 5 SYNC, 6 FB (in), 7 ON/~{OFF} (in), 8 TAB

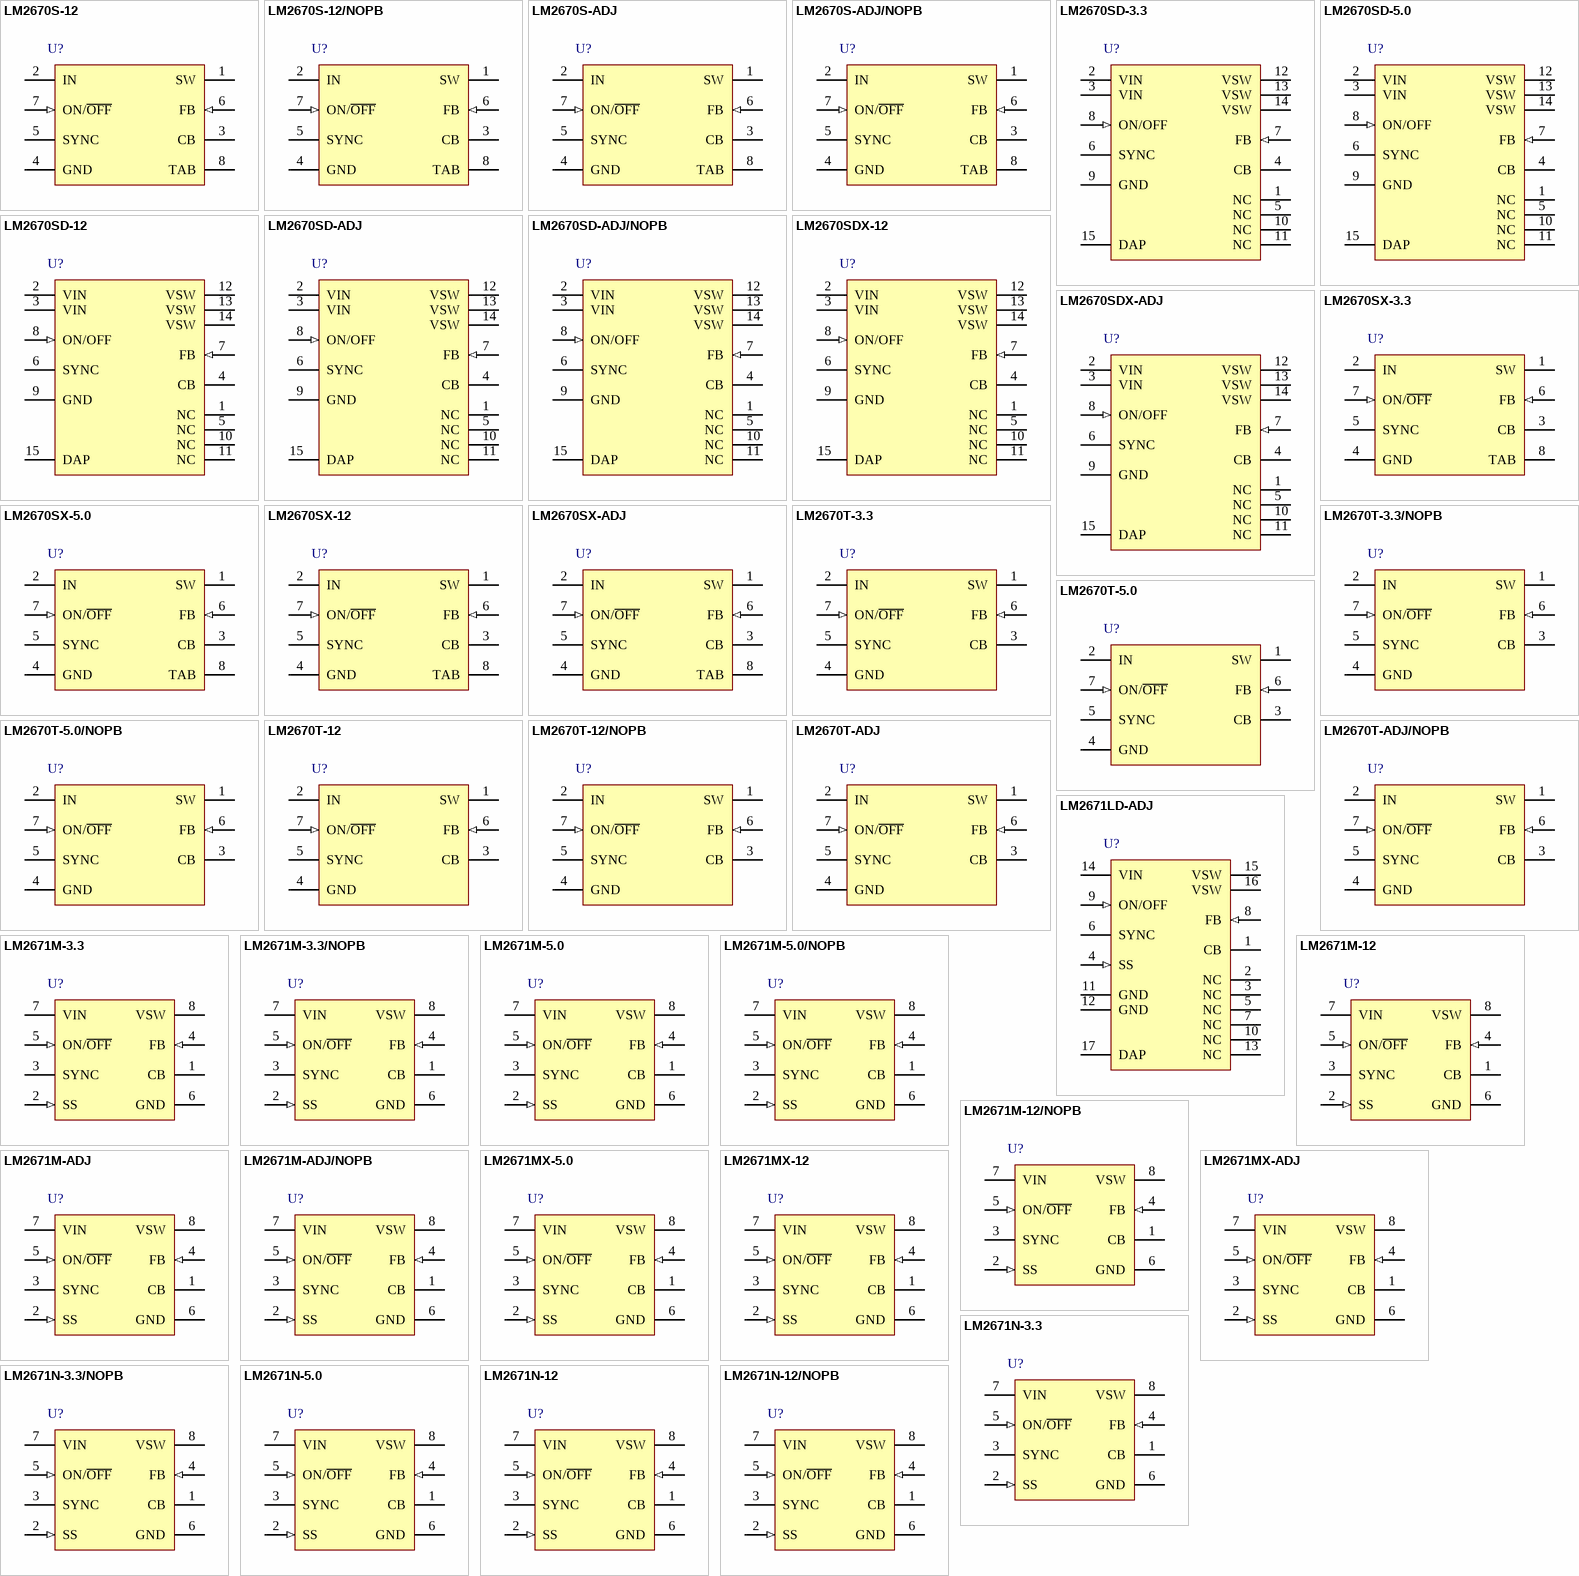
[diagram p16: symbols LM2670S-12 to LM2671N-12/NOPB]

## LM2670S-12
designator U?
SIMPLE SWITCHER® High Efficiency 3A Step-Down Voltage Regulator with Sync, 7-pin TO-263; PartNumber: LM2670S-12; Manufacturer: National Semiconductor; PackageTopMarking: NSUZXYTTE#*LM2670*S-12; PowerWise: N; High-Reliability: Y; DatasheetVersion: Feb-2008; PackageVersion: revE, Jul-2003; PackageReference: TS7B; PackageDescription: TO-263, Molded, .400 x .390 x .180in Body, 7 Lead, .050in Pitch, Surface Mount; RoHS: N; PinCount: 7; CompType: Switcher; Code_JEDEC: MO-169-AC; ComponentLink1Description: Manufacturer URL; ComponentLink1URL: http://www.national.com/; ComponentLink2Description: LM2670 Datasheet; ComponentLink2URL: http://www.national.com/ds/LM/LM2670.pdf; ComponentLink3Description: LM2670 Web Page; ComponentLink3URL: http://www.national.com/pf/LM/LM2670.html; ComponentLink4Description: TS7B Package Page; ComponentLink4URL: http://www.national.com/packaging/folders/ts7b.html
footprint TS7B_N (D2-PAK, 8-Leads, Body 8.6x10.2mm, Pitch 1.27mm, Lead Span 14.1mm, IPC Medium Density)
footprint TS7B_L (D2-PAK, 8-Leads, Body 8.6x10.2mm, Pitch 1.27mm, Lead Span 14.1mm, IPC High Density)
footprint TS7B_M (D2-PAK, 8-Leads, Body 8.6x10.2mm, Pitch 1.27mm, Lead Span 14.1mm, IPC Low Density)
pins: 1 SW (power), 2 IN (power), 3 CB, 4 GND (power), 5 SYNC, 6 FB (in), 7 ON/~{OFF} (in), 8 TAB

## LM2670S-12/NOPB
designator U?
SIMPLE SWITCHER® High Efficiency 3A Step-Down Voltage Regulator with Sync, 7-pin TO-263, Pb-Free; PartNumber: LM2670S-12/NOPB; Manufacturer: National Semiconductor; PackageTopMarking: NSUZXYTTE#*LM2670*S-12; PowerWise: N; High-Reliability: Y; DatasheetVersion: Feb-2008; PackageVersion: revE, Jul-2003; PackageReference: TS7B; PackageDescription: TO-263, Molded, .400 x .390 x .180in Body, 7 Lead, .050in Pitch, Surface Mount; RoHS: Y; PinCount: 7; CompType: Switcher; Code_JEDEC: MO-169-AC; ComponentLink1Description: Manufacturer URL; ComponentLink1URL: http://www.national.com/; ComponentLink2Description: LM2670 Datasheet; ComponentLink2URL: http://www.national.com/ds/LM/LM2670.pdf; ComponentLink3Description: LM2670 Web Page; ComponentLink3URL: http://www.national.com/pf/LM/LM2670.html; ComponentLink4Description: TS7B Package Page; ComponentLink4URL: http://www.national.com/packaging/folders/ts7b.html
footprint TS7B_N (D2-PAK, 8-Leads, Body 8.6x10.2mm, Pitch 1.27mm, Lead Span 14.1mm, IPC Medium Density)
footprint TS7B_L (D2-PAK, 8-Leads, Body 8.6x10.2mm, Pitch 1.27mm, Lead Span 14.1mm, IPC High Density)
footprint TS7B_M (D2-PAK, 8-Leads, Body 8.6x10.2mm, Pitch 1.27mm, Lead Span 14.1mm, IPC Low Density)
pins: 1 SW (power), 2 IN (power), 3 CB, 4 GND (power), 5 SYNC, 6 FB (in), 7 ON/~{OFF} (in), 8 TAB

## LM2670S-ADJ
designator U?
SIMPLE SWITCHER® High Efficiency 3A Step-Down Voltage Regulator with Sync, 7-pin TO-263; PartNumber: LM2670S-ADJ; Manufacturer: National Semiconductor; PackageTopMarking: NSUZXYTTE#*LM2670*S-ADJ; PowerWise: N; High-Reliability: Y; DatasheetVersion: Feb-2008; PackageVersion: revE, Jul-2003; PackageReference: TS7B; PackageDescription: TO-263, Molded, .400 x .390 x .180in Body, 7 Lead, .050in Pitch, Surface Mount; RoHS: N; PinCount: 7; CompType: Switcher; Code_JEDEC: MO-169-AC; ComponentLink1Description: Manufacturer URL; ComponentLink1URL: http://www.national.com/; ComponentLink2Description: LM2670 Datasheet; ComponentLink2URL: http://www.national.com/ds/LM/LM2670.pdf; ComponentLink3Description: LM2670 Web Page; ComponentLink3URL: http://www.national.com/pf/LM/LM2670.html; ComponentLink4Description: TS7B Package Page; ComponentLink4URL: http://www.national.com/packaging/folders/ts7b.html
footprint TS7B_N (D2-PAK, 8-Leads, Body 8.6x10.2mm, Pitch 1.27mm, Lead Span 14.1mm, IPC Medium Density)
footprint TS7B_L (D2-PAK, 8-Leads, Body 8.6x10.2mm, Pitch 1.27mm, Lead Span 14.1mm, IPC High Density)
footprint TS7B_M (D2-PAK, 8-Leads, Body 8.6x10.2mm, Pitch 1.27mm, Lead Span 14.1mm, IPC Low Density)
pins: 1 SW (power), 2 IN (power), 3 CB, 4 GND (power), 5 SYNC, 6 FB (in), 7 ON/~{OFF} (in), 8 TAB

## LM2670S-ADJ/NOPB
designator U?
SIMPLE SWITCHER® High Efficiency 3A Step-Down Voltage Regulator with Sync, 7-pin TO-263, Pb-Free; PartNumber: LM2670S-ADJ/NOPB; Manufacturer: National Semiconductor; PackageTopMarking: NSUZXYTTE#*LM2670*S-ADJ; PowerWise: N; High-Reliability: Y; DatasheetVersion: Feb-2008; PackageVersion: revE, Jul-2003; PackageReference: TS7B; PackageDescription: TO-263, Molded, .400 x .390 x .180in Body, 7 Lead, .050in Pitch, Surface Mount; RoHS: Y; PinCount: 7; CompType: Switcher; Code_JEDEC: MO-169-AC; ComponentLink1Description: Manufacturer URL; ComponentLink1URL: http://www.national.com/; ComponentLink2Description: LM2670 Datasheet; ComponentLink2URL: http://www.national.com/ds/LM/LM2670.pdf; ComponentLink3Description: LM2670 Web Page; ComponentLink3URL: http://www.national.com/pf/LM/LM2670.html; ComponentLink4Description: TS7B Package Page; ComponentLink4URL: http://www.national.com/packaging/folders/ts7b.html
footprint TS7B_N (D2-PAK, 8-Leads, Body 8.6x10.2mm, Pitch 1.27mm, Lead Span 14.1mm, IPC Medium Density)
footprint TS7B_L (D2-PAK, 8-Leads, Body 8.6x10.2mm, Pitch 1.27mm, Lead Span 14.1mm, IPC High Density)
footprint TS7B_M (D2-PAK, 8-Leads, Body 8.6x10.2mm, Pitch 1.27mm, Lead Span 14.1mm, IPC Low Density)
pins: 1 SW (power), 2 IN (power), 3 CB, 4 GND (power), 5 SYNC, 6 FB (in), 7 ON/~{OFF} (in), 8 TAB

## LM2670SD-3.3
designator U?
SIMPLE SWITCHER® High Efficiency 3A Step-Down Voltage Regulator with Sync, 14-pin LLP; PartNumber: LM2670SD-3.3; Manufacturer: National Semiconductor; PackageTopMarking: NS*UZXYTT*S0002NB; PowerWise: N; High-Reliability: Y; DatasheetVersion: Feb-2008; PackageVersion: revA, Jul-2003; PackageReference: SRC14A; PackageDescription: LLP, Plastic, Dual, 6 x 5 x 1mm Body, 14 Lead, 0.8mm Pitch, No Pullback; RoHS: N; PinCount: 14; CompType: Switcher; ComponentLink1Description: Manufacturer URL; ComponentLink1URL: http://www.national.com/; ComponentLink2Description: LM2670 Datasheet; ComponentLink2URL: http://www.national.com/ds/LM/LM2670.pdf; ComponentLink3Description: LM2670 Web Page; ComponentLink3URL: http://www.national.com/pf/LM/LM2670.html; ComponentLink4Description: SRC14A Package Page; ComponentLink4URL: http://www.national.com/packaging/folders/src14a.html
footprint SRC14A (SON, 14-Leads, Body 6x5 mm, Pitch 0.8mm, NSC Recommended)
pins: 1 NC, 2 VIN (power), 3 VIN (power), 4 CB, 5 NC, 6 SYNC, 7 FB (in), 8 ON/OFF (in), 9 GND (power), 10 NC, 11 NC, 12 VSW (power), 13 VSW (power), 14 VSW (power), 15 DAP

## LM2670SD-5.0
designator U?
SIMPLE SWITCHER® High Efficiency 3A Step-Down Voltage Regulator with Sync, 14-pin LLP; PartNumber: LM2670SD-5.0; Manufacturer: National Semiconductor; PackageTopMarking: NS*UZXYTT*S0002PB; PowerWise: N; High-Reliability: Y; DatasheetVersion: Feb-2008; PackageVersion: revA, Jul-2003; PackageReference: SRC14A; PackageDescription: LLP, Plastic, Dual, 6 x 5 x 1mm Body, 14 Lead, 0.8mm Pitch, No Pullback; RoHS: N; PinCount: 14; CompType: Switcher; ComponentLink1Description: Manufacturer URL; ComponentLink1URL: http://www.national.com/; ComponentLink2Description: LM2670 Datasheet; ComponentLink2URL: http://www.national.com/ds/LM/LM2670.pdf; ComponentLink3Description: LM2670 Web Page; ComponentLink3URL: http://www.national.com/pf/LM/LM2670.html; ComponentLink4Description: SRC14A Package Page; ComponentLink4URL: http://www.national.com/packaging/folders/src14a.html
footprint SRC14A (SON, 14-Leads, Body 6x5 mm, Pitch 0.8mm, NSC Recommended)
pins: 1 NC, 2 VIN (power), 3 VIN (power), 4 CB, 5 NC, 6 SYNC, 7 FB (in), 8 ON/OFF (in), 9 GND (power), 10 NC, 11 NC, 12 VSW (power), 13 VSW (power), 14 VSW (power), 15 DAP

## LM2670SD-12
designator U?
SIMPLE SWITCHER® High Efficiency 3A Step-Down Voltage Regulator with Sync, 14-pin LLP; PartNumber: LM2670SD-12; Manufacturer: National Semiconductor; PackageTopMarking: NS*UZXYTT*S0002LB; PowerWise: N; High-Reliability: Y; DatasheetVersion: Feb-2008; PackageVersion: revA, Jul-2003; PackageReference: SRC14A; PackageDescription: LLP, Plastic, Dual, 6 x 5 x 1mm Body, 14 Lead, 0.8mm Pitch, No Pullback; RoHS: N; PinCount: 14; CompType: Switcher; ComponentLink1Description: Manufacturer URL; ComponentLink1URL: http://www.national.com/; ComponentLink2Description: LM2670 Datasheet; ComponentLink2URL: http://www.national.com/ds/LM/LM2670.pdf; ComponentLink3Description: LM2670 Web Page; ComponentLink3URL: http://www.national.com/pf/LM/LM2670.html; ComponentLink4Description: SRC14A Package Page; ComponentLink4URL: http://www.national.com/packaging/folders/src14a.html
footprint SRC14A (SON, 14-Leads, Body 6x5 mm, Pitch 0.8mm, NSC Recommended)
pins: 1 NC, 2 VIN (power), 3 VIN (power), 4 CB, 5 NC, 6 SYNC, 7 FB (in), 8 ON/OFF (in), 9 GND (power), 10 NC, 11 NC, 12 VSW (power), 13 VSW (power), 14 VSW (power), 15 DAP

## LM2670SD-ADJ
designator U?
SIMPLE SWITCHER® High Efficiency 3A Step-Down Voltage Regulator with Sync, 14-pin LLP; PartNumber: LM2670SD-ADJ; Manufacturer: National Semiconductor; PackageTopMarking: NS*UZXYTT*S0002RB; PowerWise: N; High-Reliability: Y; DatasheetVersion: Feb-2008; PackageVersion: revA, Jul-2003; PackageReference: SRC14A; PackageDescription: LLP, Plastic, Dual, 6 x 5 x 1mm Body, 14 Lead, 0.8mm Pitch, No Pullback; RoHS: N; PinCount: 14; CompType: Switcher; ComponentLink1Description: Manufacturer URL; ComponentLink1URL: http://www.national.com/; ComponentLink2Description: LM2670 Datasheet; ComponentLink2URL: http://www.national.com/ds/LM/LM2670.pdf; ComponentLink3Description: LM2670 Web Page; ComponentLink3URL: http://www.national.com/pf/LM/LM2670.html; ComponentLink4Description: SRC14A Package Page; ComponentLink4URL: http://www.national.com/packaging/folders/src14a.html
footprint SRC14A (SON, 14-Leads, Body 6x5 mm, Pitch 0.8mm, NSC Recommended)
pins: 1 NC, 2 VIN (power), 3 VIN (power), 4 CB, 5 NC, 6 SYNC, 7 FB (in), 8 ON/OFF (in), 9 GND (power), 10 NC, 11 NC, 12 VSW (power), 13 VSW (power), 14 VSW (power), 15 DAP

## LM2670SD-ADJ/NOPB
designator U?
SIMPLE SWITCHER® High Efficiency 3A Step-Down Voltage Regulator with Sync, 14-pin LLP, Pb-Free; PartNumber: LM2670SD-ADJ/NOPB; Manufacturer: National Semiconductor; PackageTopMarking: NS*UZXYTT*S0002RB; PowerWise: N; High-Reliability: Y; DatasheetVersion: Feb-2008; PackageVersion: revA, Jul-2003; PackageReference: SRC14A; PackageDescription: LLP, Plastic, Dual, 6 x 5 x 1mm Body, 14 Lead, 0.8mm Pitch, No Pullback; RoHS: Y; PinCount: 14; CompType: Switcher; ComponentLink1Description: Manufacturer URL; ComponentLink1URL: http://www.national.com/; ComponentLink2Description: LM2670 Datasheet; ComponentLink2URL: http://www.national.com/ds/LM/LM2670.pdf; ComponentLink3Description: LM2670 Web Page; ComponentLink3URL: http://www.national.com/pf/LM/LM2670.html; ComponentLink4Description: SRC14A Package Page; ComponentLink4URL: http://www.national.com/packaging/folders/src14a.html
footprint SRC14A (SON, 14-Leads, Body 6x5 mm, Pitch 0.8mm, NSC Recommended)
pins: 1 NC, 2 VIN (power), 3 VIN (power), 4 CB, 5 NC, 6 SYNC, 7 FB (in), 8 ON/OFF (in), 9 GND (power), 10 NC, 11 NC, 12 VSW (power), 13 VSW (power), 14 VSW (power), 15 DAP

## LM2670SDX-12
designator U?
SIMPLE SWITCHER® High Efficiency 3A Step-Down Voltage Regulator with Sync, 14-pin LLP; PartNumber: LM2670SDX-12; Manufacturer: National Semiconductor; PackageTopMarking: NS*UZXYTT*S0002LB; PowerWise: N; High-Reliability: Y; DatasheetVersion: Feb-2008; PackageVersion: revA, Jul-2003; PackageReference: SRC14A; PackageDescription: LLP, Plastic, Dual, 6 x 5 x 1mm Body, 14 Lead, 0.8mm Pitch, No Pullback; RoHS: N; PinCount: 14; CompType: Switcher; ComponentLink1Description: Manufacturer URL; ComponentLink1URL: http://www.national.com/; ComponentLink2Description: LM2670 Datasheet; ComponentLink2URL: http://www.national.com/ds/LM/LM2670.pdf; ComponentLink3Description: LM2670 Web Page; ComponentLink3URL: http://www.national.com/pf/LM/LM2670.html; ComponentLink4Description: SRC14A Package Page; ComponentLink4URL: http://www.national.com/packaging/folders/src14a.html
footprint SRC14A (SON, 14-Leads, Body 6x5 mm, Pitch 0.8mm, NSC Recommended)
pins: 1 NC, 2 VIN (power), 3 VIN (power), 4 CB, 5 NC, 6 SYNC, 7 FB (in), 8 ON/OFF (in), 9 GND (power), 10 NC, 11 NC, 12 VSW (power), 13 VSW (power), 14 VSW (power), 15 DAP

## LM2670SDX-ADJ
designator U?
SIMPLE SWITCHER® High Efficiency 3A Step-Down Voltage Regulator with Sync, 14-pin LLP; PartNumber: LM2670SDX-ADJ; Manufacturer: National Semiconductor; PackageTopMarking: NS*UZXYTT*S0002RB; PowerWise: N; High-Reliability: Y; DatasheetVersion: Feb-2008; PackageVersion: revA, Jul-2003; PackageReference: SRC14A; PackageDescription: LLP, Plastic, Dual, 6 x 5 x 1mm Body, 14 Lead, 0.8mm Pitch, No Pullback; RoHS: N; PinCount: 14; CompType: Switcher; ComponentLink1Description: Manufacturer URL; ComponentLink1URL: http://www.national.com/; ComponentLink2Description: LM2670 Datasheet; ComponentLink2URL: http://www.national.com/ds/LM/LM2670.pdf; ComponentLink3Description: LM2670 Web Page; ComponentLink3URL: http://www.national.com/pf/LM/LM2670.html; ComponentLink4Description: SRC14A Package Page; ComponentLink4URL: http://www.national.com/packaging/folders/src14a.html
footprint SRC14A (SON, 14-Leads, Body 6x5 mm, Pitch 0.8mm, NSC Recommended)
pins: 1 NC, 2 VIN (power), 3 VIN (power), 4 CB, 5 NC, 6 SYNC, 7 FB (in), 8 ON/OFF (in), 9 GND (power), 10 NC, 11 NC, 12 VSW (power), 13 VSW (power), 14 VSW (power), 15 DAP

## LM2670SX-3.3
designator U?
SIMPLE SWITCHER® High Efficiency 3A Step-Down Voltage Regulator with Sync, 7-pin TO-263; PartNumber: LM2670SX-3.3; Manufacturer: National Semiconductor; PackageTopMarking: NSUZXYTTE#*LM2670*S-3.3; PowerWise: N; High-Reliability: Y; DatasheetVersion: Feb-2008; PackageVersion: revE, Jul-2003; PackageReference: TS7B; PackageDescription: TO-263, Molded, .400 x .390 x .180in Body, 7 Lead, .050in Pitch, Surface Mount; RoHS: N; PinCount: 7; CompType: Switcher; Code_JEDEC: MO-169-AC; ComponentLink1Description: Manufacturer URL; ComponentLink1URL: http://www.national.com/; ComponentLink2Description: LM2670 Datasheet; ComponentLink2URL: http://www.national.com/ds/LM/LM2670.pdf; ComponentLink3Description: LM2670 Web Page; ComponentLink3URL: http://www.national.com/pf/LM/LM2670.html; ComponentLink4Description: TS7B Package Page; ComponentLink4URL: http://www.national.com/packaging/folders/ts7b.html
footprint TS7B_N (D2-PAK, 8-Leads, Body 8.6x10.2mm, Pitch 1.27mm, Lead Span 14.1mm, IPC Medium Density)
footprint TS7B_L (D2-PAK, 8-Leads, Body 8.6x10.2mm, Pitch 1.27mm, Lead Span 14.1mm, IPC High Density)
footprint TS7B_M (D2-PAK, 8-Leads, Body 8.6x10.2mm, Pitch 1.27mm, Lead Span 14.1mm, IPC Low Density)
pins: 1 SW (power), 2 IN (power), 3 CB, 4 GND (power), 5 SYNC, 6 FB (in), 7 ON/~{OFF} (in), 8 TAB

## LM2670SX-5.0
designator U?
SIMPLE SWITCHER® High Efficiency 3A Step-Down Voltage Regulator with Sync, 7-pin TO-263; PartNumber: LM2670SX-5.0; Manufacturer: National Semiconductor; PackageTopMarking: NSUZXYTTE#*LM2670*S-5.0; PowerWise: N; High-Reliability: Y; DatasheetVersion: Feb-2008; PackageVersion: revE, Jul-2003; PackageReference: TS7B; PackageDescription: TO-263, Molded, .400 x .390 x .180in Body, 7 Lead, .050in Pitch, Surface Mount; RoHS: N; PinCount: 7; CompType: Switcher; Code_JEDEC: MO-169-AC; ComponentLink1Description: Manufacturer URL; ComponentLink1URL: http://www.national.com/; ComponentLink2Description: LM2670 Datasheet; ComponentLink2URL: http://www.national.com/ds/LM/LM2670.pdf; ComponentLink3Description: LM2670 Web Page; ComponentLink3URL: http://www.national.com/pf/LM/LM2670.html; ComponentLink4Description: TS7B Package Page; ComponentLink4URL: http://www.national.com/packaging/folders/ts7b.html
footprint TS7B_N (D2-PAK, 8-Leads, Body 8.6x10.2mm, Pitch 1.27mm, Lead Span 14.1mm, IPC Medium Density)
footprint TS7B_L (D2-PAK, 8-Leads, Body 8.6x10.2mm, Pitch 1.27mm, Lead Span 14.1mm, IPC High Density)
footprint TS7B_M (D2-PAK, 8-Leads, Body 8.6x10.2mm, Pitch 1.27mm, Lead Span 14.1mm, IPC Low Density)
pins: 1 SW (power), 2 IN (power), 3 CB, 4 GND (power), 5 SYNC, 6 FB (in), 7 ON/~{OFF} (in), 8 TAB

## LM2670SX-12
designator U?
SIMPLE SWITCHER® High Efficiency 3A Step-Down Voltage Regulator with Sync, 7-pin TO-263; PartNumber: LM2670SX-12; Manufacturer: National Semiconductor; PackageTopMarking: NSUZXYTTE#*LM2670*S-12; PowerWise: N; High-Reliability: Y; DatasheetVersion: Feb-2008; PackageVersion: revE, Jul-2003; PackageReference: TS7B; PackageDescription: TO-263, Molded, .400 x .390 x .180in Body, 7 Lead, .050in Pitch, Surface Mount; RoHS: N; PinCount: 7; CompType: Switcher; Code_JEDEC: MO-169-AC; ComponentLink1Description: Manufacturer URL; ComponentLink1URL: http://www.national.com/; ComponentLink2Description: LM2670 Datasheet; ComponentLink2URL: http://www.national.com/ds/LM/LM2670.pdf; ComponentLink3Description: LM2670 Web Page; ComponentLink3URL: http://www.national.com/pf/LM/LM2670.html; ComponentLink4Description: TS7B Package Page; ComponentLink4URL: http://www.national.com/packaging/folders/ts7b.html
footprint TS7B_N (D2-PAK, 8-Leads, Body 8.6x10.2mm, Pitch 1.27mm, Lead Span 14.1mm, IPC Medium Density)
footprint TS7B_L (D2-PAK, 8-Leads, Body 8.6x10.2mm, Pitch 1.27mm, Lead Span 14.1mm, IPC High Density)
footprint TS7B_M (D2-PAK, 8-Leads, Body 8.6x10.2mm, Pitch 1.27mm, Lead Span 14.1mm, IPC Low Density)
pins: 1 SW (power), 2 IN (power), 3 CB, 4 GND (power), 5 SYNC, 6 FB (in), 7 ON/~{OFF} (in), 8 TAB

## LM2670SX-ADJ
designator U?
SIMPLE SWITCHER® High Efficiency 3A Step-Down Voltage Regulator with Sync, 7-pin TO-263; PartNumber: LM2670SX-ADJ; Manufacturer: National Semiconductor; PackageTopMarking: NSUZXYTTE#*LM2670*S-ADJ; PowerWise: N; High-Reliability: Y; DatasheetVersion: Feb-2008; PackageVersion: revE, Jul-2003; PackageReference: TS7B; PackageDescription: TO-263, Molded, .400 x .390 x .180in Body, 7 Lead, .050in Pitch, Surface Mount; RoHS: N; PinCount: 7; CompType: Switcher; Code_JEDEC: MO-169-AC; ComponentLink1Description: Manufacturer URL; ComponentLink1URL: http://www.national.com/; ComponentLink2Description: LM2670 Datasheet; ComponentLink2URL: http://www.national.com/ds/LM/LM2670.pdf; ComponentLink3Description: LM2670 Web Page; ComponentLink3URL: http://www.national.com/pf/LM/LM2670.html; ComponentLink4Description: TS7B Package Page; ComponentLink4URL: http://www.national.com/packaging/folders/ts7b.html
footprint TS7B_N (D2-PAK, 8-Leads, Body 8.6x10.2mm, Pitch 1.27mm, Lead Span 14.1mm, IPC Medium Density)
footprint TS7B_L (D2-PAK, 8-Leads, Body 8.6x10.2mm, Pitch 1.27mm, Lead Span 14.1mm, IPC High Density)
footprint TS7B_M (D2-PAK, 8-Leads, Body 8.6x10.2mm, Pitch 1.27mm, Lead Span 14.1mm, IPC Low Density)
pins: 1 SW (power), 2 IN (power), 3 CB, 4 GND (power), 5 SYNC, 6 FB (in), 7 ON/~{OFF} (in), 8 TAB

## LM2670T-3.3
designator U?
SIMPLE SWITCHER® High Efficiency 3A Step-Down Voltage Regulator with Sync, 7-pin TO-220; PartNumber: LM2670T-3.3; Manufacturer: National Semiconductor; PackageTopMarking: NSUZXYTTE#*LM2670*T-3.3; PowerWise: N; High-Reliability: Y; DatasheetVersion: Feb-2008; PackageVersion: revC, Apr-1999; PackageReference: TA07B; PackageDescription: TO-220, Molded, .400 x .590 x .180in Body, 7 Lead, .050in Pitch, Staggered; RoHS: N; PinCount: 7; CompType: Switcher; Code_JEDEC: TO-220-AB; ComponentLink1Description: Manufacturer URL; ComponentLink1URL: http://www.national.com/; ComponentLink2Description: LM2670 Datasheet; ComponentLink2URL: http://www.national.com/ds/LM/LM2670.pdf; ComponentLink3Description: LM2670 Web Page; ComponentLink3URL: http://www.national.com/pf/LM/LM2670.html; ComponentLink4Description: TA07B Package Page; ComponentLink4URL: http://www.national.com/packaging/folders/ta07b.html
footprint TA07B (TO, Thru-Hole, Vertical, Heatsink Mounted; 7 Bent Staggered Leads; Body 10.2x8.7x4.6mm, Pitch 1.27 mm)
pins: 1 SW (power), 2 IN (power), 3 CB, 4 GND (power), 5 SYNC, 6 FB (in), 7 ON/~{OFF} (in)